# Altium footprint library PcbLib1.PcbLib: 37 footprints (part 1 of 3)
Each footprint in its own frame and in the unit in brackets; x right, y up, seen from the top. Pads: shape width x height; smd on the part's side, far side on the other; paste and mask are expansions set on the pad; w line width, h text height; cw(c..) or ccw(c..) is an arc to the next point about the centre after c.
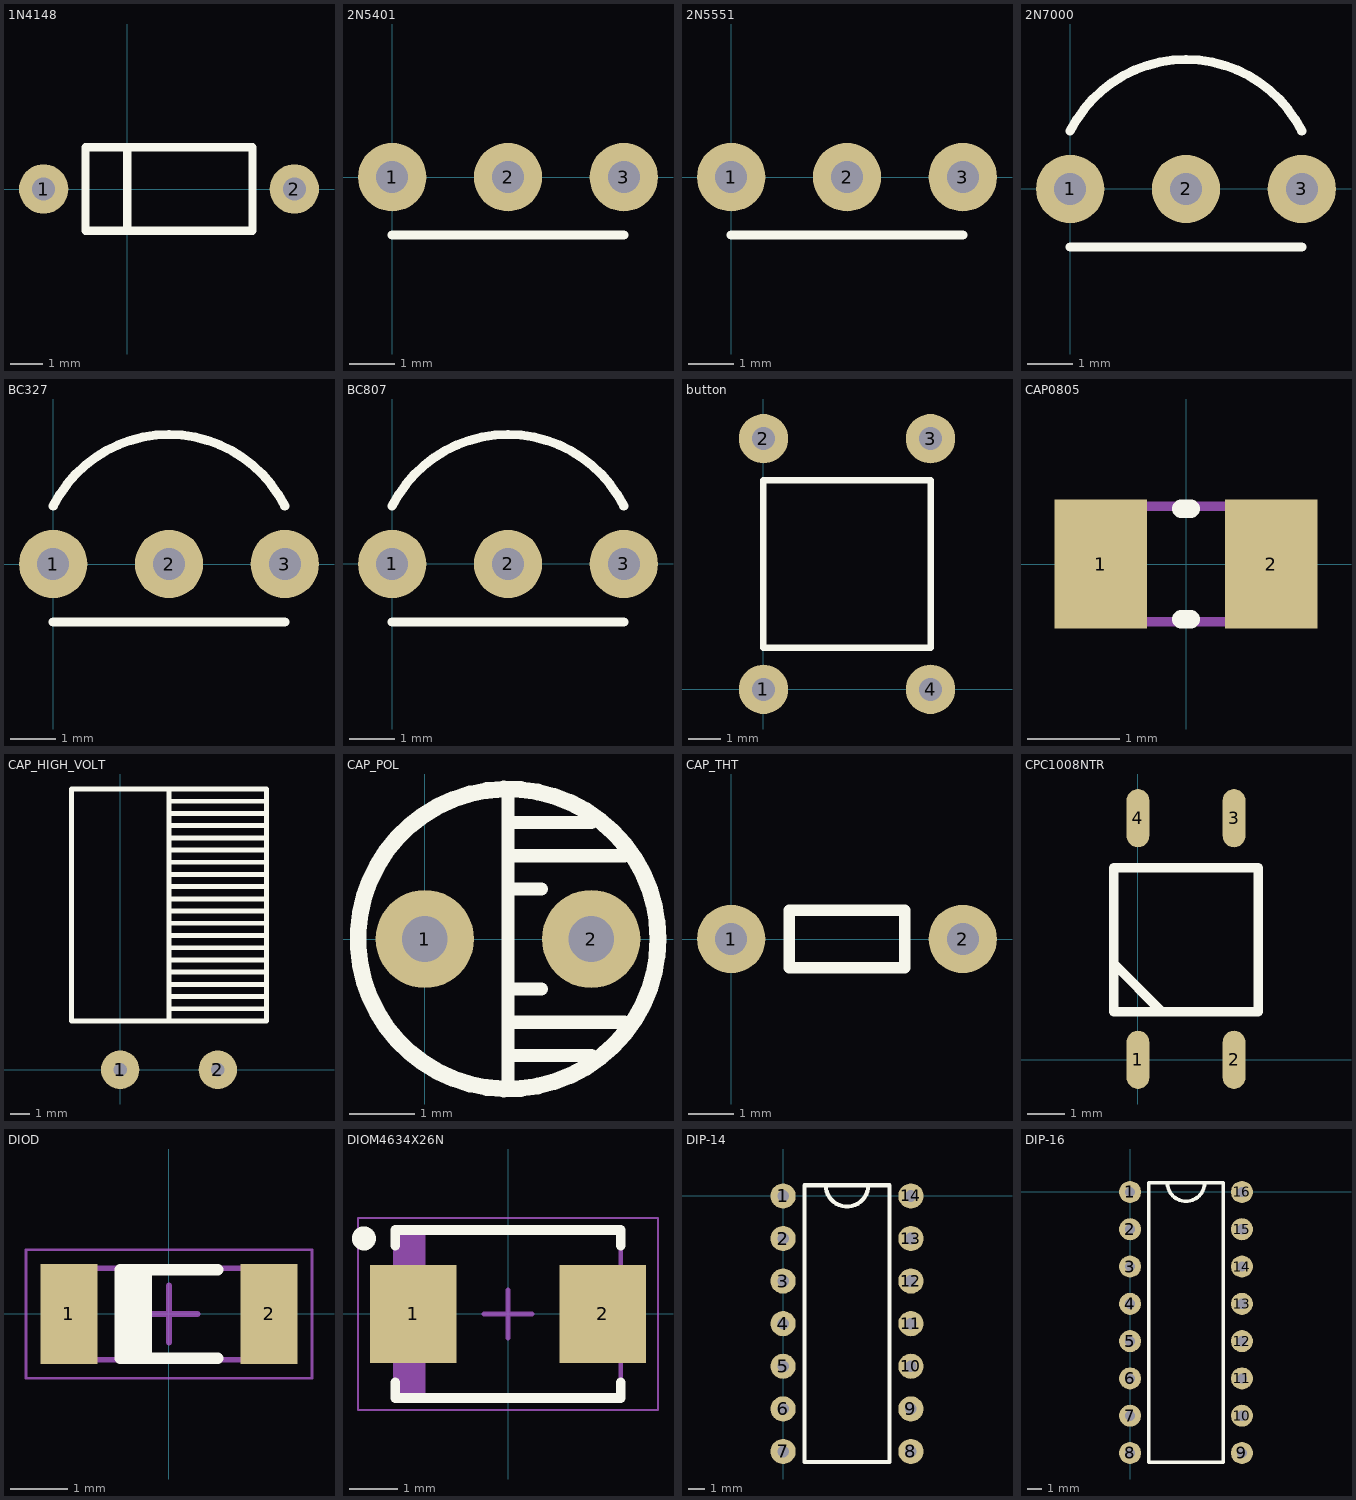
[diagram p0: the footprints below, top view; thin cyan lines are the x and y axes]

## 1N4148 [mm]
pads (2):
  round 1.5 hole 0.7: 1(-2.54,0) 2(5.08,0)
Top Overlay:
  lines w0.254: 0,-1.27 0,1.27 ; -1.27,-1.27 3.81,-1.27 3.81,1.27 -1.27,1.27 -1.27,-1.27
3D body "DO-35_Max_300mil_rev1.1.STEP": height 2.78, standoff -2.6, extent -2.819,-1.143 5.359,1.137

## 2N5401 [mm]
pads (3):
  round 1.5 hole 0.7: 1(0,0) 2(2.54,0) 3(5.08,0)
Top Overlay:
  lines w0.2: 0,-1.27 5.08,-1.27
3D body "TO92_2.STEP": height 11.33, standoff -6.2, extent -0.205,-1.6 5.285,2.6

## 2N5551 [mm]
pads (3):
  round 1.5 hole 0.7: 1(0,0) 2(2.54,0) 3(5.08,0)
Top Overlay:
  lines w0.2: 0,-1.27 5.08,-1.27
3D body "TO92_2.STEP": height 11.33, standoff -6.2, extent -0.205,-1.6 5.285,2.6

## 2N7000 [mm]
pads (3):
  round 1.5 hole 0.7: 1(0,0) 2(2.54,0) 3(5.08,0)
Top Overlay:
  lines w0.2: 0,-1.27 5.08,-1.27 ; 0,1.27 cw(c2.54,0) 5.08,1.27
3D body "TO92_2.STEP": height 11.33, standoff -6.2, extent -0.205,-1.6 5.285,2.6

## BC327 [mm]
pads (3):
  round 1.5 hole 0.7: 1(0,0) 2(2.54,0) 3(5.08,0)
Top Overlay:
  lines w0.2: 0,-1.27 5.08,-1.27 ; 0,1.27 cw(c2.54,0) 5.08,1.27
3D body "TO92_2.STEP": height 11.33, standoff -6.2, extent -0.205,-1.6 5.285,2.6

## BC807 [mm]
pads (3):
  round 1.5 hole 0.7: 1(0,0) 2(2.54,0) 3(5.08,0)
Top Overlay:
  lines w0.2: 0,-1.27 5.08,-1.27 ; 0,1.27 cw(c2.54,0) 5.08,1.27
3D body "TO92_2.STEP": height 11.33, standoff -6.2, extent -0.205,-1.6 5.285,2.6

## button [mm]
pads (4):
  round 1.5 hole 0.7: 1(0,0) 2(0,7.62) 3(5.08,7.62) 4(5.08,0)
Top Overlay:
  lines w0.2: 0,1.27 0,6.35 5.08,6.35 5.08,1.27 0,1.27
3D body "6X6X8_BUTTON.STEP": height 9.5, standoff -1.95, extent -0.46,-0.291 5.54,7.911

## CAP0805 [mm] "Chip Capacitor, 2-Leads, Body 2,00x1,25mm, IPC Medium Density"
height 0.7
pads (2):
  rect 1x1.4 smd: 1(-0.925,0) 2(0.925,0)
Top Overlay:
  lines w0.2: -0.05,-0.6 0.05,-0.6 ; -0.05,0.6 0.05,0.6
Mechanical 13:
  lines w0.1: -1,-0.625 -1,0.625 1,0.625 1,-0.625 -1,-0.625
3D body "CAPC2012X07N.step": height 0.7, standoff 0, extent -1,-0.625 1,0.625

## CAP_HIGH_VOLT [mm]
pads (2):
  round 2 hole 0.7: 1(0,0) 2(5.08,0)
Top Overlay:
  lines w0.254: 2.54,2.54 2.54,14.605 2.54,13.97 7.62,13.97 ; 2.54,3.175 7.62,3.175 ; 2.54,3.81 7.62,3.81 ; 2.54,4.445 7.62,4.445 ; 2.54,5.08 7.62,5.08 ; 2.54,5.715 7.62,5.715 ; 2.54,6.35 7.62,6.35 ; 2.54,6.985 7.62,6.985 ; 2.54,7.62 7.62,7.62 ; 2.54,8.255 7.62,8.255 ; 2.54,8.89 7.62,8.89 ; 2.54,9.525 7.62,9.525 ; 2.54,10.16 7.62,10.16 ; 2.54,10.795 7.62,10.795 ; 2.54,11.43 7.62,11.43 ; 2.54,12.065 7.62,12.065 ; 2.54,12.7 7.62,12.7 ; 2.54,13.335 7.62,13.335 ; -2.54,2.54 -2.54,14.605 7.62,14.605 7.62,2.54 -2.54,2.54
3D body "ElCapLA-5.0-10x12.step": height 10.1, standoff -3, extent -2.46,-0.299 7.541,14.401

## CAP_POL [mm]
pads (2):
  round 1.5 hole 0.7: 1(0,0) 2(2.54,0)
Top Overlay:
  circle w0.254: c1.27,0 r2.29
  lines w0.2: 1.27,-2.286 1.27,2.286 ; 1.27,-1.778 2.54,-1.778 ; 1.27,-1.27 3.048,-1.27 ; 1.27,-0.762 1.778,-0.762 ; 1.27,0.762 1.778,0.762 ; 1.27,1.27 3.048,1.27 ; 1.27,1.778 2.54,1.778
3D body "22uF 25V electr 5 x11mm -P.diameter 2.5mm-Black-White.stp": height 12, standoff -3.1, extent -1.23,-2.498 3.77,2.498

## CAP_THT [mm]
pads (2):
  round 1.5 hole 0.7: 1(0,0) 2(5.08,0)
Top Overlay:
  lines w0.254: 1.27,-0.635 3.81,-0.635 3.81,0.635 1.27,0.635 1.27,-0.635
3D body "Ceramic Cap, 5mm lead spacing, 4mm width, and 5.5mm tall, v4 v2.step": height 5.5, standoff -1.8, extent -0.285,-1.27 5.365,1.186

## CPC1008NTR [mm]
pads (4):
  oval 0.6x1.54 smd: 1(0,0) 2(2.54,0) 3(2.54,6.39) 4(0,6.39)
Top Overlay:
  lines w0.254: -0.635,2.54 0.635,1.27 ; -0.635,1.27 3.175,1.27 3.175,5.08 -0.635,5.08 -0.635,1.27

## DIOD [mm] "MELF Diode, 2-Leads, Body 3,50x1,53mm, IPC Medium Density"
height 1.6
pads (2):
  rect 1x1.75 smd: 1(-1.75,0) 2(1.75,0)
Top Overlay:
  rectangle: -0.85,-0.775 -0.3,0.775
  lines w0.2: 0.85,-0.775 -0.85,-0.775 -0.85,0.775 0.85,0.775
Mechanical 13:
  lines w0.1: -1.85,-0.8 -1.85,0.8 1.85,0.8 1.85,-0.8 -1.85,-0.8
Mechanical 15:
  lines w0.05: -2.5,-1.125 -2.5,1.125 2.5,1.125 2.5,-1.125 -2.5,-1.125
  lines w0.1: -0.5,0 0.5,0 ; 0,-0.5 0,0.5
3D body "DIOMELF3515N.step": height 1.53, standoff 0.01, extent -1.75,-0.761 1.75,0.761

## DIOM4634X26N [mm] "Molded Diode, 2-Leads, Body 4,60x3,40mm, IPC Medium Density"
height 2.6
pads (2):
  rect 1.8x2.05 smd: 1(-1.975,0) 2(1.975,0)
Top Overlay:
  circle w0.25: c-3,1.575 r0.125
  lines w0.2: -2.35,-1.425 -2.35,-1.75 2.35,-1.75 2.35,-1.425 ; -2.35,1.425 -2.35,1.75 2.35,1.75 2.35,1.425
Mechanical 13:
  rectangle: -2.35,-1.75 -1.718,1.75
  lines w0.1: -2.35,-1.75 -2.35,1.75 2.35,1.75 2.35,-1.75 -2.35,-1.75
Mechanical 15:
  lines w0.05: -3.125,-2 -3.125,2 3.125,2 3.125,-2 -3.125,-2
  lines w0.1: -0.5,0 0.5,0 ; 0,-0.5 0,0.5
3D body "DIOM4634X26N.step": height 2.6, standoff 0, extent -2.57,-1.75 2.57,1.75

## DIP-14 [mm]
pads (14):
  round 1.5 hole 0.7: 1(0,0) 2(0,-2.54) 3(0,-5.08) 4(0,-7.62) 5(0,-10.16) 6(0,-12.7) 7(0,-15.24) 8(7.62,-15.24) 9(7.62,-12.7) 10(7.62,-10.16) 11(7.62,-7.62) 12(7.62,-5.08) 13(7.62,-2.54) 14(7.62,0)
Top Overlay:
  lines w0.254: 2.54,0.635 ccw(c3.81,0.635) 5.08,0.635 ; 1.27,-15.875 1.27,0.635 6.35,0.635 6.35,-15.875 1.27,-15.875
3D body "IC_Sockel_14P.stp": height 5.56, standoff -2.9, extent -1.27,-16.51 8.89,1.27
3D body "DIP-14.step": height 8.63, standoff 2, extent -0.125,-17.12 7.745,1.88

## DIP-16 [mm]
pads (16):
  round 1.5 hole 0.7: 1(0,0) 2(0,-2.54) 3(0,-5.08) 4(0,-7.62) 5(0,-10.16) 6(0,-12.7) 7(0,-15.24) 8(0,-17.78) 9(7.62,-17.78) 10(7.62,-15.24) 11(7.62,-12.7) 12(7.62,-10.16) 13(7.62,-7.62) 14(7.62,-5.08) 15(7.62,-2.54) 16(7.62,0)
Top Overlay:
  lines w0.254: 2.54,0.635 ccw(c3.81,0.635) 5.08,0.635 ; 1.27,-18.415 1.27,0.635 6.35,0.635 6.35,-18.415 1.27,-18.415
3D body "IC_Sockel_16P.stp": height 5.56, standoff -2.9, extent -1.27,-19.05 8.89,1.27
3D body "DIP-16.STEP": height 8.63, standoff 2, extent -0.125,-18.665 7.745,0.885